# EAGLE library part ESP-08 (library Co.-ESP)
ESP8266 Wifi Module ESP-08
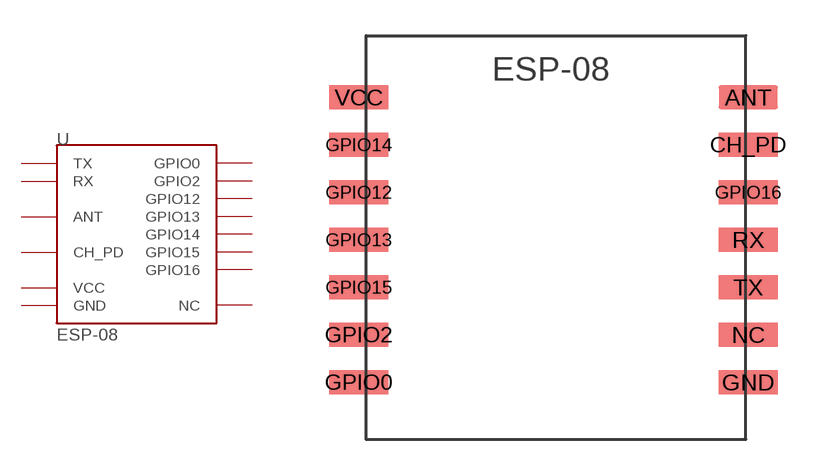
[diagram p12: symbol with the pads of ESP-08; footprint ESP-08]

Designator prefix -

## ESP-08 (DIMENSIONS: 17.0 x 16.0 mm; PINS: 14; PITCH: 0.078" / 2 mm)  [ESP-08]
ANT  ANT
CH_PD  CH_PD
GND  GND
GPIO0  GPIO0
GPIO2  GPIO2
GPIO12  GPIO12
GPIO13  GPIO13
GPIO14  GPIO14
GPIO15  GPIO15
GPIO16  GPIO16
NC  NC
RX  RX
TX  TX
VCC  VCC

## Footprint ESP-08 (pad centres in mm)
ESP8266 Module ESP-08
smd 2.5 x 1: ANT 15.82,11.88; CH_PD 15.82,9.88; GND 15.82,-0.12; GPIO0 -0.58,-0.12; GPIO2 -0.58,1.88; GPIO12 -0.58,7.88; GPIO13 -0.58,5.88; GPIO14 -0.58,9.88; GPIO15 -0.58,3.88; GPIO16 15.82,7.88; NC 15.82,1.88; RX 15.82,5.88; TX 15.82,3.88; VCC -0.58,11.88